# Altium footprint library VioletofSun.PcbLib: 319 footprints (part 7 of 20)
Each footprint in its own frame and in the unit in brackets; x right, y up, seen from the top. Pads: shape width x height; smd on the part's side, far side on the other; paste and mask are expansions set on the pad; w line width, h text height; cw(c..) or ccw(c..) is an arc to the next point about the centre after c.
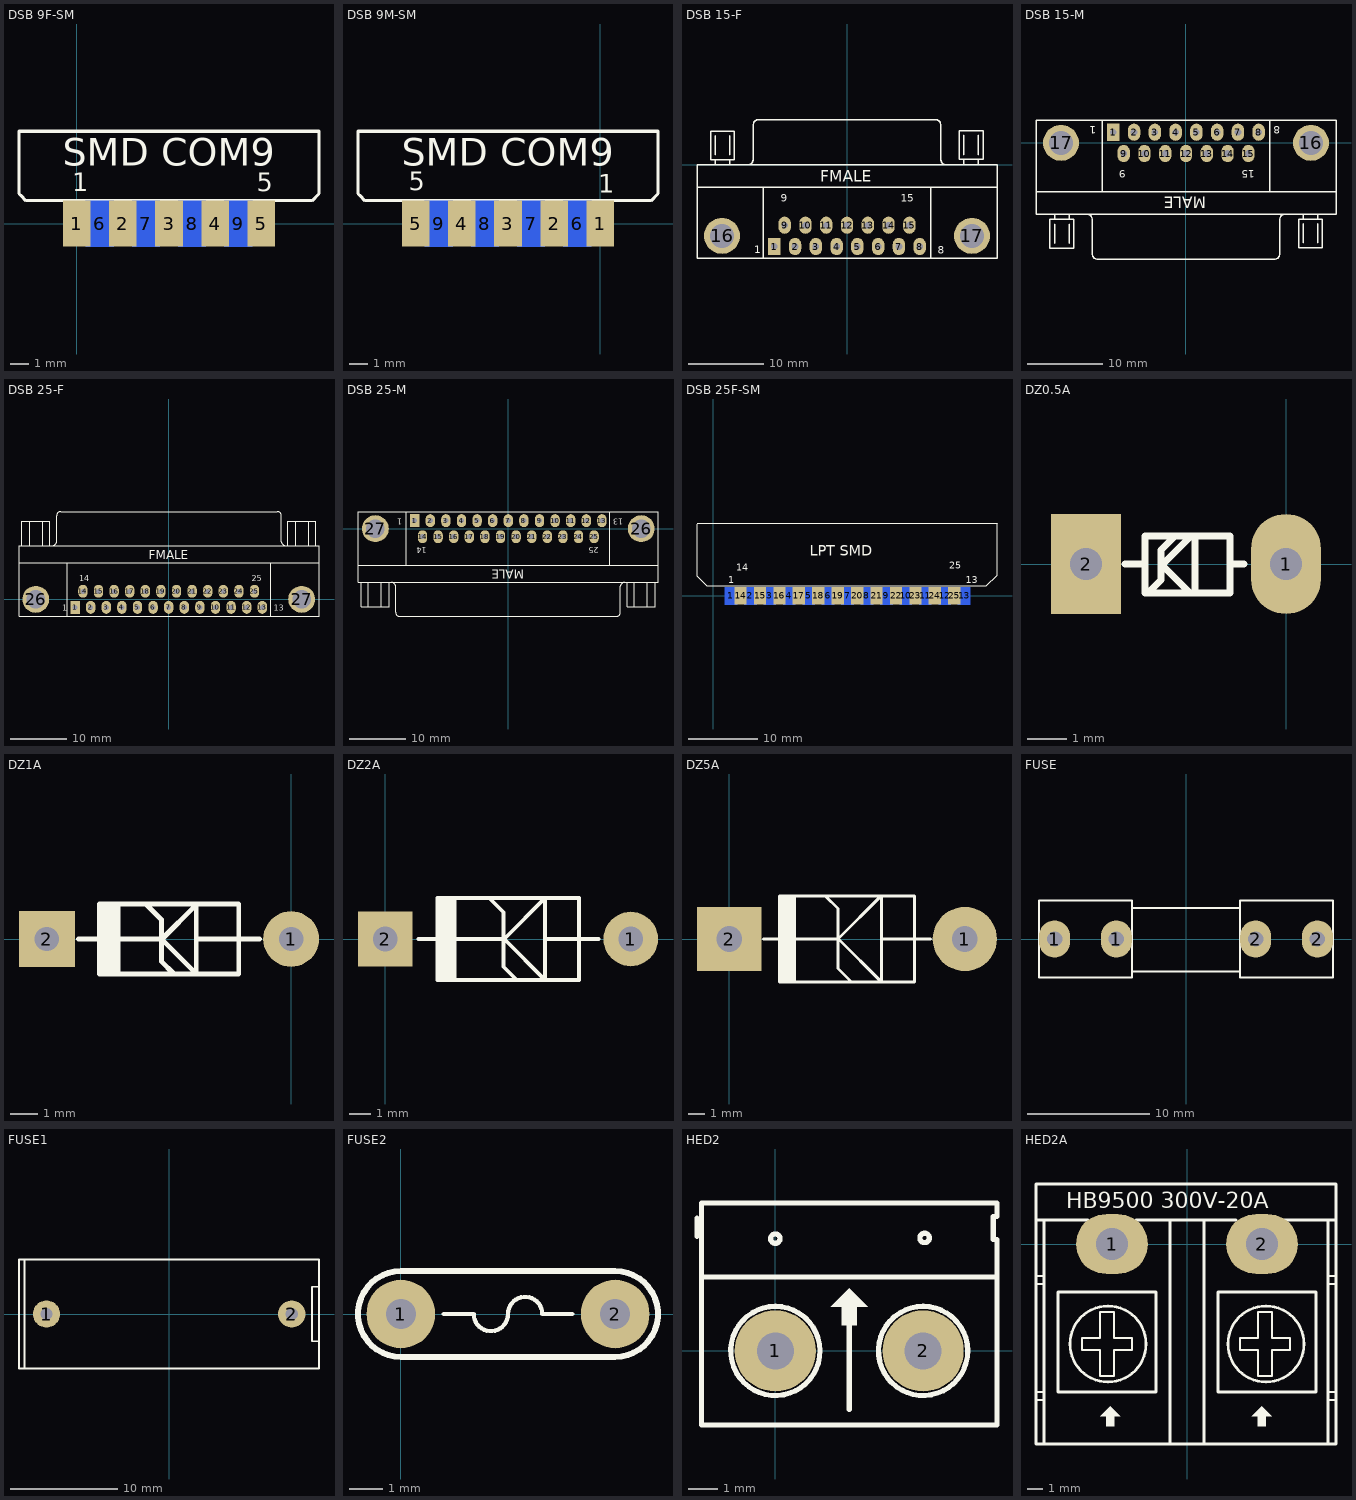
[diagram p6: the footprints below, top view; thin cyan lines are the x and y axes]

## DSB 9F-SM [mil] "Com 9 chan SMD,F"
pads (11):
  rect 60x100 smd: 1(0,0) 2(100,0) 3(200,0) 4(300,0) 5(400,0)
  rect 60x100 smd far side: 6(50,0) 7(150,0) 8(250,0) 9(350,0)
  round 1 all layers, no hole: 10(21,144) 11(152,144)
Top Overlay:
  lines w7: -125,65 -125,100 -125,200 525,200 525,65 510,50 435,50 -110,50 -120,60 -125,65
  text "1" at -10,70 h40
  text "5" at 390,70 h40
  text "SMD COM9" at -30,125 h60

## DSB 9M-SM [mil] "Com 9 chan SMD,F"
pads (11):
  rect 60x100 smd: 1(0,0) 2(-100,0) 3(-200,0) 4(-300,0) 5(-400,0)
  rect 60x100 smd far side: 6(-50,0) 7(-150,0) 8(-250,0) 9(-350,0)
  round 1 all layers, no hole: 10(-379,144) 11(-248,144)
Top Overlay:
  lines w7: -525,65 -525,100 -525,200 125,200 125,65 110,50 35,50 -510,50 -520,60 -525,65
  text "1" at -4,67 h40
  text "5" at -415,72 h40
  text "SMD COM9" at -430,125 h60

## DSB 15-F [mil] "COM FMALE - D Subminiature; 15 Position; Right Angle; Pitch 1.385 mm"
height 501.97
pads (17):
  rect 65x90 hole 35: 1(-381.69,-429.92)
  oval 65x90 hole 35: 2(-272.64,-429.92) 3(-163.58,-429.92) 4(-54.53,-429.92) 5(54.53,-429.92) 6(163.58,-429.92) 7(272.64,-429.92) 8(381.69,-429.92) 9(-327.17,-318.11) 10(-218.11,-318.11) 11(-109.06,-318.11) 12(0,-318.11) 13(109.06,-318.11) 14(218.11,-318.11) 15(327.17,-318.11)
  round 188.98 hole 125.2: 16(-655.91,-374.02) 17(655.91,-374.02)
Top Overlay:
  lines w7.87: -787.4,-118.11 787.4,-118.11 ; -519.49,0.2 ccw(c-519.49,27.56) -492.13,27.56 -492.13,208.66 ; -491.93,208.86 cw(c-464.57,208.86) -464.57,236.22 464.57,236.22 cw(c464.57,208.86) 491.93,208.86 ; -438.58,-492.13 -438.58,-118.11 ; 438.58,-492.13 438.58,-118.11 ; 492.13,208.66 492.13,27.56 ccw(c519.49,27.56) 519.49,0.2 ; -787.4,-492.13 787.4,-492.13 787.4,0 -787.4,0 -787.4,-492.13
  lines w8: -691,1 -691,26 ; -691,51 -691,151 ; -616,1 -616,26 ; -616,51 -616,151 ; 614,3 614,28 ; 614,53 614,153 ; 689,3 689,28 ; 689,53 689,153 ; -716,26 -591,26 -591,176 -716,176 -716,26 ; 589,28 714,28 714,178 589,178 589,28
  text "FMALE" at -140,-90 h60
  text "9" at -346.85,-195.87 h40
  text "15" at 282.87,-195.87 h40
  text "8" at 476,-469 h40
  text "1" at -488,-466 h40

## DSB 15-M [mil] "LPT15 MALE - D Subminiature; 15 Position; Right Angle; Pitch 1.385 mm"
height 501.97
pads (17):
  rect 65x90 hole 35: 1(-381.69,55.91)
  oval 65x90 hole 35: 2(-272.64,55.9) 3(-163.58,55.9) 4(-54.53,55.9) 5(54.53,55.9) 6(163.58,55.9) 7(272.64,55.9) 8(381.69,55.9) 9(-327.16,-55.91) 10(-218.11,-55.91) 11(-109.05,-55.91) 12(0,-55.91) 13(109.06,-55.91) 14(218.11,-55.91) 15(327.17,-55.91)
  round 188.98 hole 125.2: 16(655.91,0) 17(-655.91,0)
Top Overlay:
  lines w7.87: -787.4,-255.91 787.4,-255.91 ; -519.49,-374.21 cw(c-519.49,-401.58) -492.13,-401.58 -492.13,-582.68 ; -491.93,-582.87 ccw(c-464.57,-582.87) -464.57,-610.24 464.57,-610.24 ccw(c464.57,-582.87) 491.93,-582.87 ; -438.58,-255.91 -438.58,118.11 ; 438.58,-255.91 438.58,118.11 ; 492.13,-582.68 492.13,-401.58 cw(c519.49,-401.58) 519.49,-374.21 ; -787.4,-374.02 -787.4,118.11 787.4,118.11 787.4,-374.02 -787.4,-374.02
  lines w8: -689,-527.02 -689,-427.02 ; -689,-402.02 -689,-377.02 ; -614,-527.02 -614,-427.02 ; -614,-402.02 -614,-377.02 ; 616,-525.02 616,-425.02 ; 616,-400.02 616,-375.02 ; 691,-525.02 691,-425.02 ; 691,-400.02 691,-375.02 ; -714,-552.02 -589,-552.02 -589,-402.02 -714,-402.02 -714,-552.02 ; 591,-550.02 716,-550.02 716,-400.02 591,-400.02 591,-550.02
  text "1" at -470,85.98 h40
  text "8" at 495,85.98 h40
  text "15" at 360,-144.02 h40
  text "9" at -315,-144.02 h40
  text "MALE" at 105,-284.02 h60

## DSB 25-F [mil] "LPT FMALE - D Subminiature; 25 Position; Right Angle; Pitch 1.385 mm"
height 509.06
pads (27):
  rect 65x90 hole 35: 1(-652.2,-55.91)
  oval 65x90 hole 35: 2(-543.5,-55.91) 3(-434.8,-55.91) 4(-326.1,-55.91) 5(-217.4,-55.91) 6(-108.7,-55.91) 7(0,-55.91) 8(108.7,-55.91) 9(217.4,-55.91) 10(326.1,-55.91) 11(434.8,-55.91) 12(543.5,-55.91) 13(652.2,-55.91) 14(-597.85,55.91) 15(-489.15,55.91) 16(-380.45,55.91) 17(-271.75,55.91) 18(-163.05,55.91) 19(-54.35,55.91) 20(54.35,55.91) 21(163.05,55.91) 22(271.75,55.91) 23(380.45,55.91) 24(489.15,55.91) 25(597.85,55.91)
  round 187.4 hole 128.35: 26(-926.22,0) 27(926.22,0)
Top Overlay:
  lines w7.87: -1043.15,255.91 1047.4,255.91 ; -808.7,374.21 ccw(c-808.7,401.57) -781.34,401.57 -781.34,582.68 ; -781.14,582.87 cw(c-753.78,582.87) -753.78,610.24 758.03,610.24 cw(c758.03,582.87) 785.39,582.87 ; -706.54,-118.11 -706.54,255.91 ; 710.79,-118.11 710.79,255.91 ; 785.59,582.68 785.59,401.57 ccw(c812.95,401.57) 812.95,374.21 ; -1043.15,-118.11 -1043.15,374.02 1047.4,374.02 1047.4,-118.11 -1043.15,-118.11
  lines w8: -1023,375.02 -1023,544.02 -828,544.02 -828,375.02 ; -968,375.02 -968,544.02 ; -878,375.02 -878,544.02 ; 830,375.02 830,544.02 1025,544.02 1025,375.02 ; 885,375.02 885,544.02 ; 975,375.02 975,544.02
  text "25" at 578,125.02 h40
  text "14" at -624,125.02 h40
  text "13" at 733,-79.98 h40
  text "1" at -743,-79.98 h40
  text "FMALE" at -140,279.02 h60

## DSB 25-M [mil] "LPT MALE D Subminiature; 25 Position; Right Angle; Pitch 1.385 mm"
height 509.06
pads (27):
  rect 65x90 hole 35: 1(-652.2,55.91)
  oval 65x90 hole 35: 2(-543.5,55.91) 3(-434.8,55.91) 4(-326.1,55.91) 5(-217.4,55.91) 6(-108.7,55.91) 7(0,55.91) 8(108.7,55.91) 9(217.4,55.91) 10(326.1,55.91) 11(434.8,55.91) 12(543.5,55.91) 13(652.21,55.91) 14(-597.85,-55.91) 15(-489.15,-55.91) 16(-380.45,-55.91) 17(-271.75,-55.91) 18(-163.05,-55.91) 19(-54.35,-55.91) 20(54.35,-55.91) 21(163.05,-55.91) 22(271.75,-55.91) 23(380.45,-55.91) 24(489.15,-55.91) 25(597.85,-55.91)
  round 187.4 hole 128.35: 26(926.22,0) 27(-926.22,0)
Top Overlay:
  lines w7.87: -1047.4,-255.91 1043.15,-255.91 ; -812.95,-374.21 cw(c-812.95,-401.57) -785.59,-401.57 -785.59,-582.68 ; -785.39,-582.87 ccw(c-758.03,-582.87) -758.03,-610.24 753.78,-610.24 ccw(c753.78,-582.87) 781.14,-582.87 ; -710.79,-255.91 -710.79,118.11 ; 706.54,-255.91 706.54,118.11 ; 781.34,-582.68 781.34,-401.57 cw(c808.7,-401.57) 808.7,-374.21 ; -1047.4,-374.02 1043.15,-374.02 1043.15,118.11 -1047.4,118.11 -1047.4,-374.02
  lines w8: -1025,-375.02 -1025,-544.02 -830,-544.02 -830,-375.02 ; -975,-544.02 -975,-375.02 ; -885,-544.02 -885,-375.02 ; 828,-375.02 828,-544.02 1023,-544.02 1023,-375.02 ; 878,-544.02 878,-375.02 ; 968,-544.02 968,-375.02
  text "MALE" at 110,-285 h60
  text "1" at -740,70.98 h40
  text "13" at 800,70.98 h40
  text "14" at -570,-129.02 h40
  text "25" at 630,-129.02 h40

## DSB 25F-SM [mil] "25 pin, connector LPT"
height 200
pads (27):
  rect 70x100 smd far side: 1(100,0) 2(211,0) 3(322,0) 4(433,0) 5(544,0) 6(655,0) 7(766,0) 8(877,0) 9(988,0) 10(1099,0) 11(1210,0) 12(1321,0) 13(1432,0)
  rect 70x100 smd: 14(155,0) 15(266,0) 16(377,0) 17(488,0) 18(599,0) 19(710,0) 20(821,0) 21(932,0) 22(1043,0) 23(1154,0) 24(1265,0) 25(1376,0)
  round 1 all layers, no hole: 26(760,80) 27(870,80)
Top Overlay:
  lines w7: -94,112 -39,57 1558,57 1620,119 1620,413 1618,415 1551,415 -89,415 -94,410 -94,112
  text "13" at 1441,73 h40
  text "1" at 85,73 h40
  text "14" at 131,143 h40
  text "25" at 1346,155 h40
  text "LPT SMD" at 550,230 h60

## DZ0.5A [mil] "Diode Zenner, W 80mil, L 300mil"
height 80
pads (2):
  oval 70x100 hole 32: 1(0,0)
  rect 70x100 hole 32: 2(-200,0)
Top Overlay:
  lines w7: -161,0 -141,0 ; -138,-29 -125,-16 -125,14 -111.5,27.5 ; -125,-2 -125,0 ; -95,28 -123,0 -125,0 ; -91,28 -91,-27 -89,-29 -93,-29 -96,-29 -125,0 ; -56,0 -42,0 ; -141,-29 -56,-29 -56,28 -141,28 -141,-29

## DZ1A [mil] "Diode 1A, W 100mil, L 350mil"
height 100
pads (2):
  round 80 hole 35: 1(0,0)
  rect 80x80 hole 35: 2(-350,0)
Top Overlay:
  region: -275,50 -275,-50 -245,-50 -245,50
  lines w7: -305,0 -275,0 ; -275,-16 -275,0 ; -275,21 -275,0 ; -255,0 -190,0 ; -208,50 -186,28 -186,-32 -168.5,-49.5 ; -185.5,-0.5 -136,-50 -136,50 -136,49 -185,0 -185,-1 ; -135,0 -75,0 -45,0 ; -275,0 -275,-50 -75,-50 -75,50 -275,50 -275,0
3D body: height 120.61, standoff -50, extent -346,-65 -15,40

## DZ2A [mil] "Diode 2A, W 150mil, L 450mil"
height 100
pads (2):
  round 100 hole 45: 1(450,0)
  rect 100x100 hole 45: 2(0,0)
Top Overlay:
  region: 95,75 95,-75 130,-75 130,75
  lines w7: 61,0 96,0 ; 96,-31 96,0 ; 96,32 96,0 ; 115,0 215,0 ; 194,72 217,49 217,-51 239,-73 ; 218,1 218,0 ; 295,0 360,0 ; 355,0 391,0 ; 218,0 293,-75 293,75 218,0 ; 96,-75 355,-75 355,75 96,75 96,-75
3D body: height 100.5, standoff -100, extent -5,-46 425,55

## DZ5A [mil] "Diode 5A, W 200mil, L 550mil"
height 150
pads (2):
  round 150 hole 60: 1(550,0)
  rect 150x150 hole 60: 2(0,0)
Top Overlay:
  region: 115,100 115,-100 155,-100 155,100
  lines w7: 80,0 118,0 ; 118,-44 118,0 ; 118,46 118,0 ; 150,0 255,0 355,-100 355,100 354,100 254,0 ; 225,100 254,71 ; 254,-5 254,6 ; 254,70 254,-69 283,-98 ; 355,0 435,0 ; 432,0 470,0 ; 118,-100 432,-100 432,100 118,100 118,-100

## FUSE [mil] "De Fuse"
pads (4):
  oval 100x120 hole 50: 1(-425,0) 1(-225,0) 2(225,0) 2(425,0)
Top Overlay:
  lines w7: -175,-105 175,-105 ; -175,100 175,100 ; -475,-125 -175,-125 -175,125 -475,125 -475,-125 ; 175,-125 175,125 475,125 475,-125 175,-125
3D body: height 377.88, standoff -129.94, extent -448,-117 -208,126.71
3D body: height 370.39, standoff 169.61, extent -384.8,-98 390.8,102.79
3D body: height 377.88, standoff -129.94, extent 219,-116.71 459,127

## FUSE1 [mil] "De Fuse Box"
pads (2):
  round 100 hole 45: 1(-450,0) 2(450,0)
Top Overlay:
  lines w7: -531,-199 -531,200 ; 549,-100 525,-100 524,-99 524,100 550,100 ; -551,-200 550,-200 550,200 -551,200 -551,-200

## FUSE2 [mil] "Fuse"
pads (2):
  round 80 hole 35: 1(0,0) 2(250,0)
Top Overlay:
  lines w5: 50,0 85,0 ccw(c105,0) 125,0 cw(c145,0) 165,0 200,0
  lines w7: 0,-50 cw(c0,0) 0,50 250,50 cw(c250,0) 250,-50 0,-50

## HED2 [mil] "Header 2, 2 pin, hight 300mil, Pin to Pin 200, Colour Green"
height 300
pads (2):
  round 110 hole 50: 1(0,0) 2(200,0)
Top Overlay:
  circle w7: c0,152 r6.4
  circle w7: c202,153 r6.4
  region: 100,85 75,60 90,60 90,35 110,35 110,60 125,60
  lines w7: -106,155 -106,180 ; -98,100 299,100 ; 38.83,46.23 ccw(c0,0) 40.11,45.12 ; 100,-79 100,72 ; 238.74,46.3 ccw(c200,0) 240.11,45.12 ; -100,-100 300,-100 300,151 295,151 295,182 300,182 300,200 -100,200 -100,50 -100,-100
3D body: height 393.7, standoff -157.48, extent -91.85,-140 301.85,155.28

## HED2A [mil] "Header 2: 300V-20A, 2 pin, hight 300mil, Pin to Pin 400, Colour Green"
height 300
pads (2):
  oval 180x150 hole 80: 1(-187.5,0) 2(187.5,0)
Top Overlay:
  circle w7: c-197.5,-250 r95
  circle w7: c197.5,-250 r95
  region: -192.5,-405 -217.5,-430 -202.5,-430 -202.5,-455 -182.5,-455 -182.5,-430 -167.5,-430
  region: 187.5,-405 162.5,-430 177.5,-430 177.5,-455 197.5,-455 197.5,-430 212.5,-430
  lines w5: -375,-390 -360,-390 ; -375,-370 -360,-370 ; -375,-100 -360,-100 ; -375,-80 -360,-80 ; 355,-390 370,-390 ; 355,-370 370,-370 ; 355,-100 370,-100 ; 355,-80 370,-80 ; -262.5,-265 -262.5,-235 -217.5,-235 -217.5,-170 -182.5,-170 -182.5,-235 -137.5,-235 -137.5,-265 -182.5,-265 -182.5,-330 -217.5,-330 -217.5,-265 -262.5,-265 ; 132.5,-265 177.5,-265 177.5,-330 212.5,-330 212.5,-265 257.5,-265 257.5,-235 212.5,-235 212.5,-170 177.5,-170 177.5,-235 132.5,-235 132.5,-265
  lines w7: -377.5,60 -247.5,60 ; -357.5,-495 -357.5,60 ; -127.5,60 122.5,60 ; -42.5,-495 -42.5,60 ; 42.5,-495 42.5,60 ; 242.5,60 372.5,60 ; 352.5,-495 352.5,60 ; -377.5,-500 -377.5,150 372.5,150 372.5,-500 -377.5,-500 ; -322.5,-370 -77.5,-370 -77.5,-120 -322.5,-120 -322.5,-370 ; 77.5,-370 77.5,-120 322.5,-120 322.5,-370 77.5,-370
  text "HB9500 300V-20A" at -302.5,90 h40